# Altium schematic symbol library SWD_PROBE.SchLib: 1 symbol
Pins are listed as number, name and electrical type; pins without a type are passive.

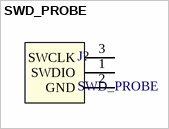
[diagram p0: symbol SWD_PROBE]

## SWD_PROBE
designator J?  (no BOM)
pins: 1 SWDIO, 2 GND (power), 3 SWCLK